# Altium footprint library PCB - RF FILTER - TAIYO YUDEN SMD-5 1.4X1MM.PCBLIB: 1 footprints
Each footprint in its own frame and in the unit in brackets; x right, y up, seen from the top. Pads: shape width x height; smd on the part's side, far side on the other; paste and mask are expansions set on the pad; w line width, h text height; cw(c..) or ccw(c..) is an arc to the next point about the centre after c.
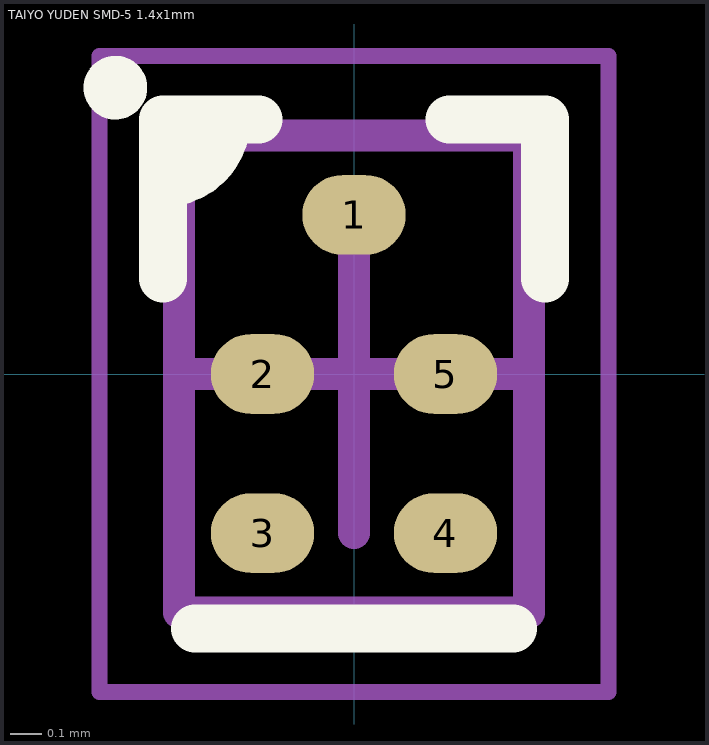
[diagram p0: the footprint, top view; thin cyan lines are the x and y axes]

## TAIYO YUDEN SMD-5 1.4x1mm [mm] "5-SMD 5 Leads 1.4 x 1.0 SAW Filter"
height 0.5
pads (5):
  oval 0.325x0.25 smd: 1(0,0.5) 2(-0.288,0) 3(-0.288,-0.5) 4(0.288,-0.5) 5(0.288,0)
Top Overlay:
  circle w0.1: c-0.75,0.9 r0.05
  region: -0.45,0.8 -0.6,0.8 -0.6,0.6 -0.4,0.8
  lines w0.15: -0.6,0.3 -0.6,0.8 -0.3,0.8 ; -0.6,0.6 ccw(c-0.6,0.8) -0.4,0.8 ; -0.5,-0.8 0.5,-0.8 ; 0.3,0.8 0.6,0.8 0.6,0.3
Mechanical 13:
  lines w0.1: -0.55,-0.75 -0.55,0.75 0.55,0.75 0.55,-0.75 -0.55,-0.75
Mechanical 15:
  lines w0.05: -0.8,-1 -0.8,1 0.8,1 0.8,-1 -0.8,-1
  lines w0.1: -0.5,0 0.5,0 ; 0,-0.5 0,0.5
3D body: height 0.2, standoff 0, extent -0.55,-0.75 0.55,0.75
3D body: height 0.5, standoff 0, extent -0.525,-0.725 0.525,0.725